# Altium integrated library ClapDetector_Lib.IntLib: 10 symbols
Pins are listed as number, name and electrical type; pins without a type are passive.

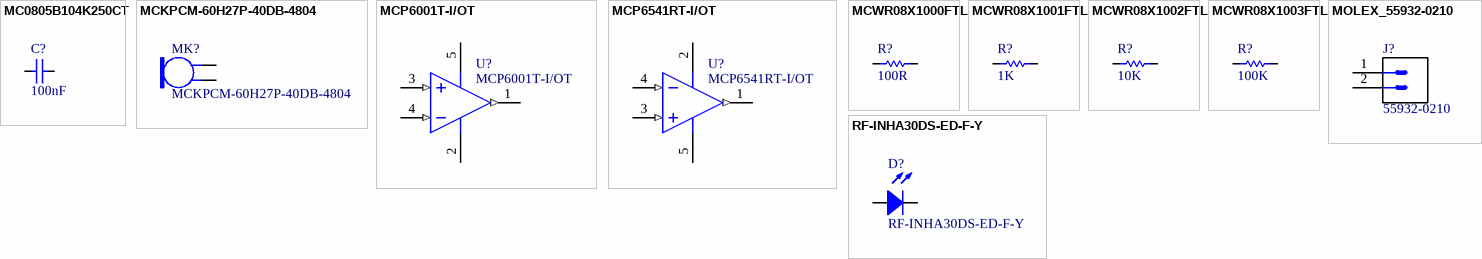
[diagram p0: symbols MC0805B104K250CT to RF-INHA30DS-ED-F-Y]

## MC0805B104K250CT
designator C?, comment 100nF
CAP, MLCC, 100nF, 25V, ±10%, X7R, 0805 [2012 metric], MC Series; Manufacturer: MULTICOMP; Manufacturer Part Number: MC0805B104K250CT; Voltage: 25V; Part Type: MLCC; Value: 100nF; Tolerance: ±10%; Material: X7R; Package: 0805 [2012 Metric]; Thickness: 0.8mm; Mounting Technology: Surface Mount; Supplier 1: Farnell; Supplier Part Number 1: 1759166; ComponentLink1Description: Datasheet; ComponentLink1URL: http://www.farnell.com/datasheets/2315108.pdf
footprint CAPC1608N
footprint C0805
pins: 1, 2

## MCKPCM-60H27P-40DB-4804
designator MK?
Microphone, Omnidirectional, 100 Hz to 16 kHz, 2 V to 10 V, -40 dB; Manufacturer: MULTICOMP; Value: MCKPCM-60H27P-40DB-4804; Supplier 1: Farnell; Supplier Part Number 1: 2135925; Manufacturer Part Number: MCKPCM-60H27P-40DB-4804; Package: D 6mm, H 2.7mm; Mounting Technology: Through Hole Mount
footprint MULTICOMP_MCKPCM-60H27P-40DB-4804 (Microphone)
pins: 1 OUT, 2 GND

## MCP6001T-I/OT
designator U?
1 MHz, Low-Power Operational Amplifier, 5-Pin SOT-23, Industrial Temperature, Tape and Reel; Manufacturer: Microchip; Supplier 1: Farnell; Supplier Part Number 1: 4974992; Mounting Technology: Surface Mount; Package: SOT23-5; Manufacturer Part Number: MCP6001T-I/OT; Value: MCP6001T-I/OT
footprint SOT-23-OT5_N (SOT23, 5-Leads, Body 2.9x1.6mm, Pitch 0.95mm, Lead Span 2.7mm, IPC Medium Density)
footprint SOT-23-OT5_L (SOT23, 5-Leads, Body 2.9x1.6mm, Pitch 0.95mm, Lead Span 2.7mm, IPC High Density)
footprint SOT-23-OT5_M (SOT23, 5-Leads, Body 2.9x1.6mm, Pitch 0.95mm, Lead Span 2.7mm, IPC Low Density)
pins: 1 VOUT (out), 2 VSS (power), 3 VIN+ (in), 4 VIN- (in), 5 VDD (power)

## MCP6541RT-I/OT
designator U?
Push-Pull Output Sub-Microamp Comparator, 5-Pin SOT-23, Industrial Temperature, Tape and Reel; Manufacturer: Microchip; Supplier 1: Farnell; Supplier Part Number 1: 2851682; Mounting Technology: Surface Mount; Package: SOT23-5; Manufacturer Part Number: MCP6541RT-I/OT; Value: MCP6541RT-I/OT
footprint SOT-23-OT5_N (SOT23, 5-Leads, Body 2.9x1.6mm, Pitch 0.95mm, Lead Span 2.7mm, IPC Medium Density)
footprint SOT-23-OT5_L (SOT23, 5-Leads, Body 2.9x1.6mm, Pitch 0.95mm, Lead Span 2.7mm, IPC High Density)
footprint SOT-23-OT5_M (SOT23, 5-Leads, Body 2.9x1.6mm, Pitch 0.95mm, Lead Span 2.7mm, IPC Low Density)
pins: 1 OUT (out), 2 VDD (power), 3 VIN+ (in), 4 VIN- (in), 5 VSS (power)

## MCWR08X1000FTL
designator R?, comment 100R
RES, Thick Film, 100R, 150V, 0805 [2012 Metric], 125mW, ±1%, MCWR Series; Manufacturer: MULTICOMP; Manufacturer Part Number: MCWR08X1000FTL; Temperature Coefficient: ±100ppm/°C; Value: 100R; Supplier 1: Farnell; Supplier Part Number 1: 2447552; Tollerance: ±1%; Power: 125mW; Voltage: 150V; Package: 0805 [2012 Metric]; Part type: Thick Film; Mounting Technology: Surface Mount
footprint R0805 (Footprint not found)
pins: 1, 2
1 alternate drawing of the same symbol

## MCWR08X1001FTL
designator R?, comment 1K
RES, Thick Film, 1K, 150V, 0805 [2012 Metric], 125mW, ±1%, MCWR Series; Manufacturer: MULTICOMP; Manufacturer Part Number: MCWR08X1001FTL; Temperature Coefficient: ±100ppm/°C; Value: 1K; Supplier 1: Farnell; Supplier Part Number 1: 2447587; Tollerance: ±1%; Power: 125mW; Voltage: 150V; Package: 0805 [2012 Metric]; Part type: Thick Film; Mounting Technology: Surface Mount
footprint R0805
pins: 1, 2
1 alternate drawing of the same symbol

## MCWR08X1002FTL
designator R?, comment 10K
RES, Thick Film, 10K, 150V, 0805 [2012 Metric], 125mW, ±1%, MCWR Series; Manufacturer: MULTICOMP; Manufacturer Part Number: MCWR08X1002FTL; Temperature Coefficient: ±100ppm/°C; Value: 10K; Supplier 1: Farnell; Supplier Part Number 1: 2447553; Tollerance: ±1%; Power: 125mW; Voltage: 150V; Package: 0805 [2012 Metric]; Part type: Thick Film; Mounting Technology: Surface Mount
footprint R0805 (Footprint not found)
pins: 1, 2
1 alternate drawing of the same symbol

## MCWR08X1003FTL
designator R?, comment 100K
RES, Thick Film, 100K, 150V, 0805 [2012 Metric], 125mW, ±1%, MCWR Series; Manufacturer: MULTICOMP; Manufacturer Part Number: MCWR08X1003FTL; Temperature Coefficient: ±100ppm/°C; Value: 100K; Supplier 1: Farnell; Supplier Part Number 1: 2447551; Tollerance: ±1%; Power: 125mW; Voltage: 150V; Package: 0805 [2012 Metric]; Part type: Thick Film; Mounting Technology: Surface Mount
footprint R0805 (Footprint not found)
pins: 1, 2
1 alternate drawing of the same symbol

## MOLEX_55932-0210
designator J?, comment 55932-0210
2mm Pitch MicroClasp Wire-to-Board Header, Single Row, Vertical, 2 Contacts, with PCB Locator; Part Number: J0000066; Manufacturer: MOLEX; Gender: Receptacle; Part Type: Conector\MicroClasp; Value: 55932-0210; Orientation: Vertical; Pitch: 2mm; Mounting Technology: Through Hole Mount; Manufacturer Part Number: 55932-0210; Supplier 1: Farnell; Supplier Part Number 1: 1120482; ComponentLink1Description: Datasheet; ComponentLink1URL: https://www.molex.com/pdm_docs/sd/559320210_sd.pdf
footprint MOLEX_55932-0210
pins: 1, 2

## RF-INHA30DS-ED-F-Y
designator D?
LED; SMD; 3528,PLCC2; white warm; 8-13lm; 2700-3225K; 80; 120°; 30mA; Part Number: D0000041; Manufacturer: REFOND; Part Type: LED\White Warm; Value: RF-INHA30DS-ED-F-Y; Current: 30mA; Package: 3528; Mounting Technology: Surface Mount; Manufacturer Part Number: RF-INHA30DS-ED-F-Y; Supplier 1: TME; Supplier Part Number 1: RF-INHA30DS-ED-F-Y; ComponentLink1Description: Datasheet; ComponentLink1URL: https://www.tme.eu/lt/Document/4428253695c1f78357d829195b6319e3/RF-XXHA30DS-ED-F-Y.pdf
footprint LEDM3528X210N_YELLOW (Footprint not found)
pins: 1 Cathode, 2 Anode